# Altium schematic symbol library Schlib1.SchLib: 15 symbols
Pins are listed as number, name and electrical type; pins without a type are passive.

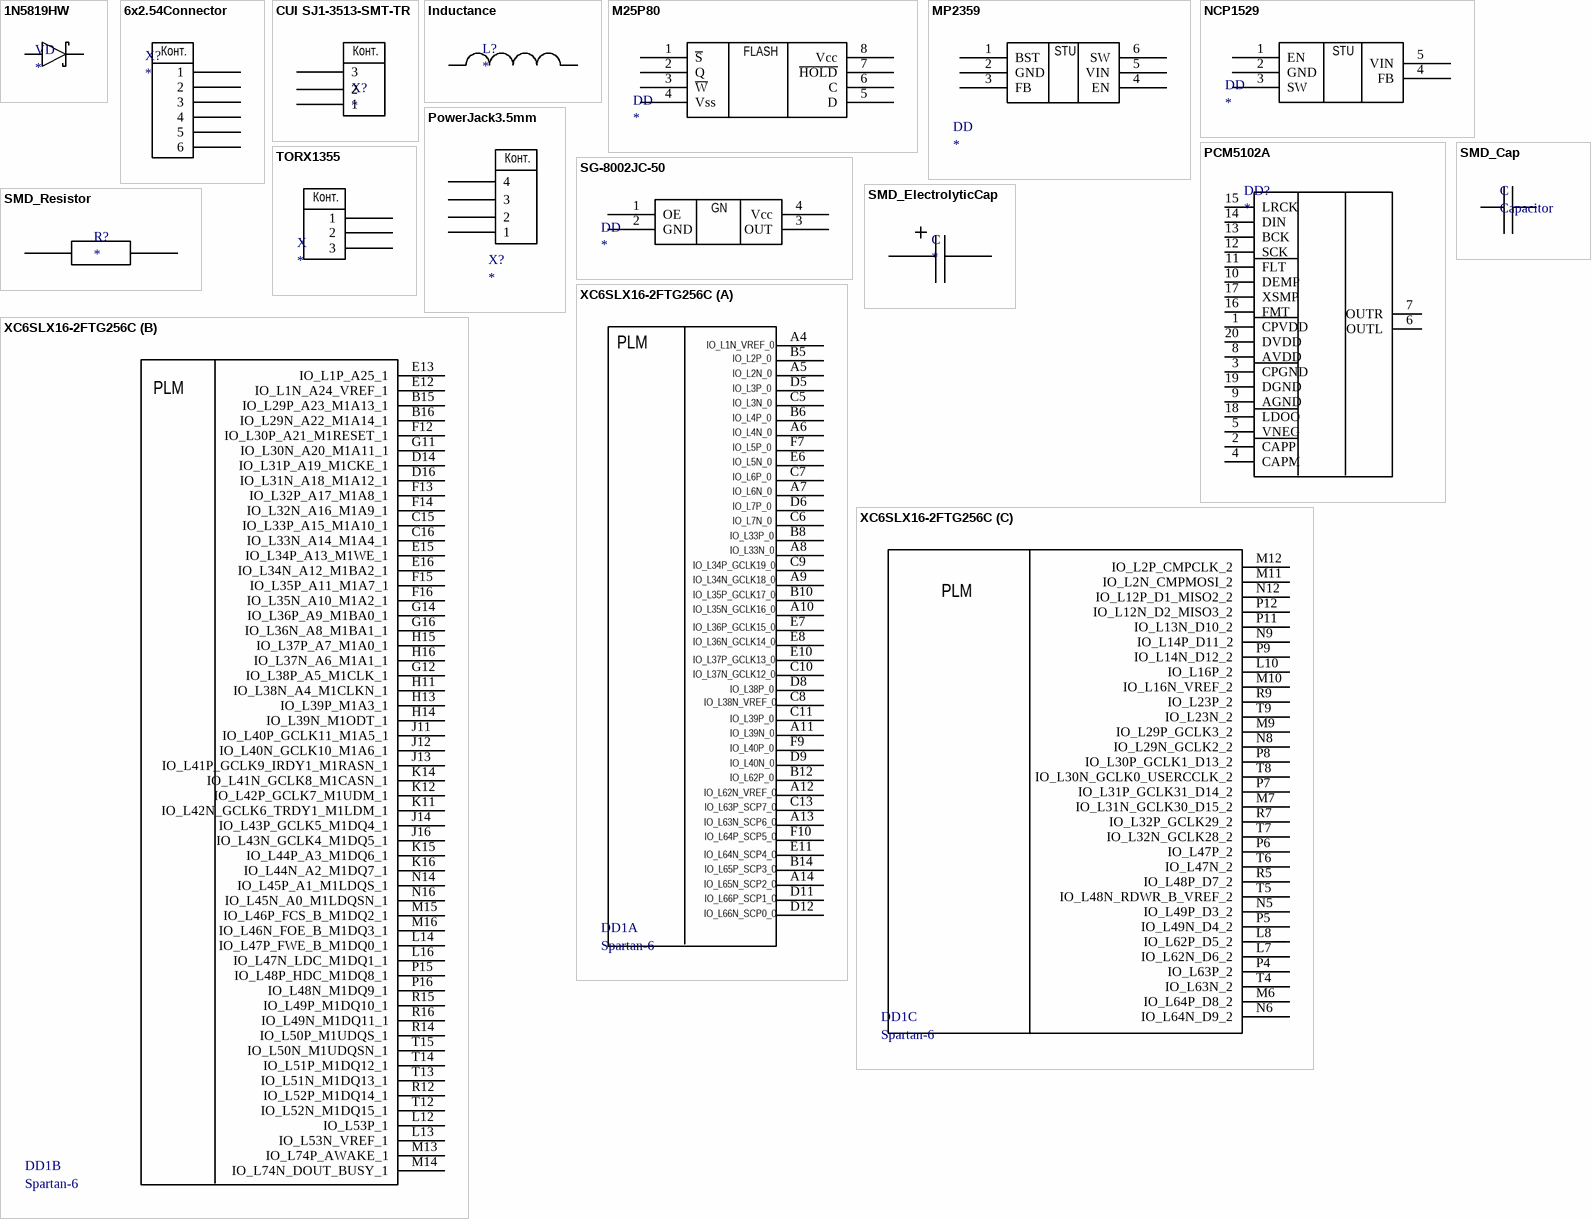
[diagram p0: symbols 1N5819HW to XC6SLX16-2FTG256C]

## 1N5819HW
designator VD
Didode Schottky; Manufacturer: 1; ManufacturerPartNumber: *; Part Number: *
footprint SOD123
pins: 1, 2

## 6x2.54Connector
designator X?
JTAG connect on PCB
footprint 6PINConnector2.54
pins: 1, 2, 3, 4, 5, 6
text: Конт.

## CUI SJ1-3513-SMT-TR
designator X?
Stereo Jack 3.5 CUI SJ1-3513-SMT-TR
footprint StereoJack3.5
pins: 1, 2, 3
text: Конт.

## Inductance
designator L?
footprint InductorSMD (B82462G4472M)
pins: 1, 2

## M25P80
designator DD
Flash memory SPI
footprint STSO-8
pins: 1 ~{S} "ChipSelect", 2 Q "DataOutput", 3 ~{W} "WriteProtect", 4 Vss "Ground", 5 D "DataInput", 6 C "SerialClock", 7 ~{HOLD} "PauseSignal", 8 Vcc "SupplyVoltage"
text: FLASH

## MP2359
designator DD
step-down switch converter TSOT-23-6
footprint SOP6
pins: 1 BST, 2 GND, 3 FB, 4 EN, 5 VIN, 6 SW
text: STU

## NCP1529
designator DD
Step-down / Converter TSOP−5
footprint PCBComponent_1 - duplicate1
pins: 1 EN, 2 GND, 3 SW, 4 FB, 5 VIN
text: STU

## PCM5102A
designator DD?
I2S DAC
pins: 1 CPVDD, 2 CAPP, 3 CPGND, 4 CAPM, 5 VNEG, 6 OUTL, 7 OUTR, 8 AVDD, 9 AGND, 10 DEMP, 11 FLT, 12 SCK, 13 BCK, 14 DIN, 15 LRCK, 16 FMT, 17 XSMP, 18 LDOO, 19 DGND, 20 DVDD

## PowerJack3.5mm
designator X?
footprint PowerJackConnector4pin
pins: 1, 2, 3, 4
text: Конт.

## SG-8002JC-50
designator DD
Oscillator 50 MHz 3.3V smd
footprint SOJ4
pins: 1 OE, 2 GND, 3 OUT, 4 Vcc
text: GN

## SMD_Cap
designator C, comment Capacitor
C1825C104JBGACTU - Kemet
footprint SMD0805
pins: 1, 2

## SMD_ElectrolyticCap
designator C
EEV-EB2W4R7SQ
footprint ElectrolitycCap
pins: 1, 2

## SMD_Resistor
designator R?
SMD resistor
footprint Resistor
pins: 1, 2

## TORX1355
designator X
footprint SPDIF
pins: 1, 2, 3
text: Конт.

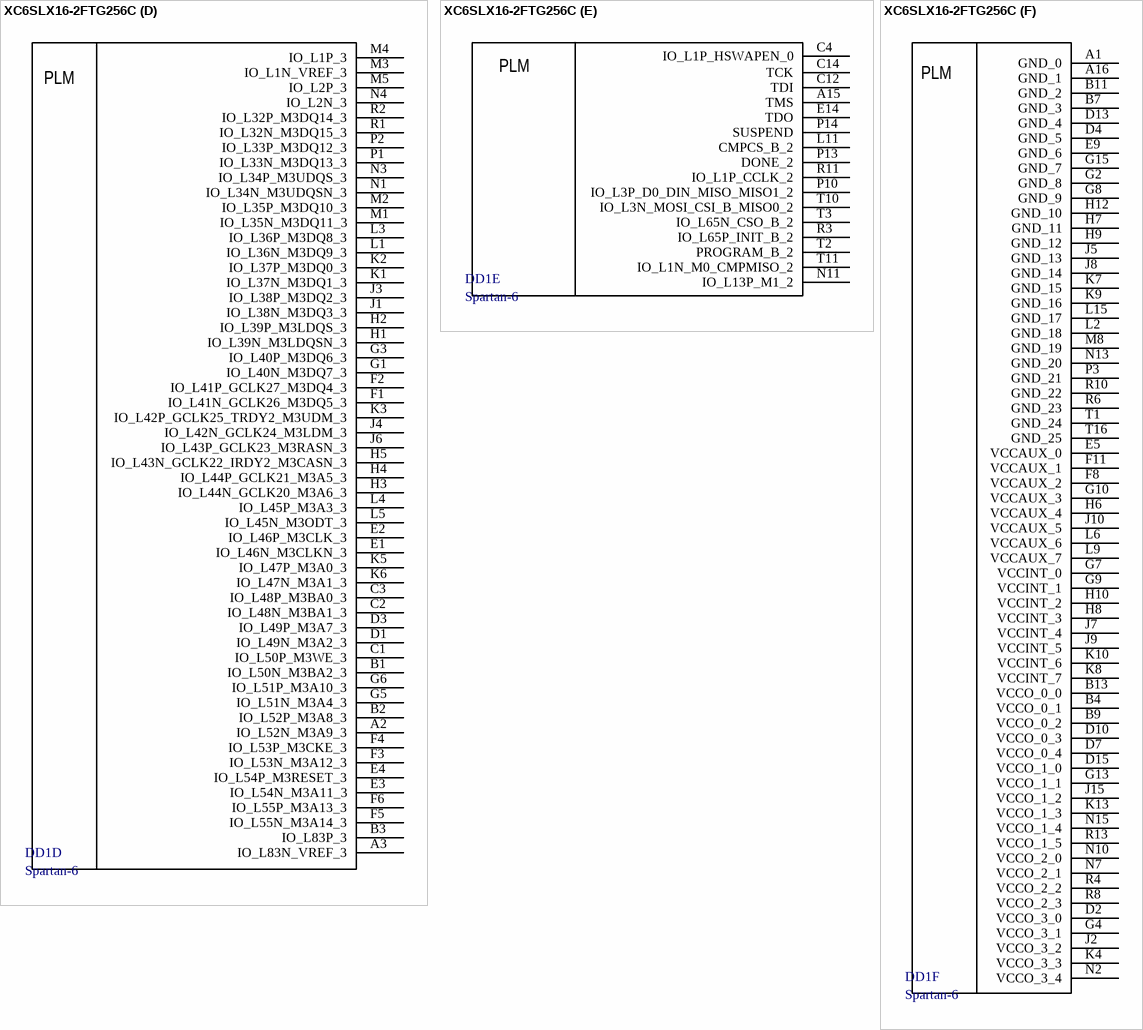
[diagram p1: symbol XC6SLX16-2FTG256C]

## XC6SLX16-2FTG256C
designator DD1, comment Spartan-6
footprint FTG256
part A pins: A4, A5, A6, A7, A8, A9, A10, A11, A12, A13, A14, B5, B6, B8, B10, B12, B14, C5, C6, C7, C8, C9, C10, C11, C13, D5, D6, D8, D9, D11, D12, E6, E7, E8, E10, E11, F7, F9, F10
part B pins: B15 IO_L29P_A23_M1A13_1, B16 IO_L29N_A22_M1A14_1, C15 IO_L33P_A15_M1A10_1, C16 IO_L33N_A14_M1A4_1, D14 IO_L31P_A19_M1CKE_1, D16 IO_L31N_A18_M1A12_1, E12 IO_L1N_A24_VREF_1, E13 IO_L1P_A25_1, E15 IO_L34P_A13_M1WE_1, E16 IO_L34N_A12_M1BA2_1, F12 IO_L30P_A21_M1RESET_1, F13 IO_L32P_A17_M1A8_1, F14 IO_L32N_A16_M1A9_1, F15 IO_L35P_A11_M1A7_1, F16 IO_L35N_A10_M1A2_1, G11 IO_L30N_A20_M1A11_1, G12 IO_L38P_A5_M1CLK_1, G14 IO_L36P_A9_M1BA0_1, G16 IO_L36N_A8_M1BA1_1, H11 IO_L38N_A4_M1CLKN_1, H13 IO_L39P_M1A3_1, H14 IO_L39N_M1ODT_1, H15 IO_L37P_A7_M1A0_1, H16 IO_L37N_A6_M1A1_1, J11 IO_L40P_GCLK11_M1A5_1, J12 IO_L40N_GCLK10_M1A6_1, J13 IO_L41P_GCLK9_IRDY1_M1RASN_1, J14 IO_L43P_GCLK5_M1DQ4_1, J16 IO_L43N_GCLK4_M1DQ5_1, K11 IO_L42N_GCLK6_TRDY1_M1LDM_1, K12 IO_L42P_GCLK7_M1UDM_1, K14 IO_L41N_GCLK8_M1CASN_1, K15 IO_L44P_A3_M1DQ6_1, K16 IO_L44N_A2_M1DQ7_1, L12 IO_L53P_1, L13 IO_L53N_VREF_1, L14 IO_L47P_FWE_B_M1DQ0_1, L16 IO_L47N_LDC_M1DQ1_1, M13 IO_L74P_AWAKE_1, M14 IO_L74N_DOUT_BUSY_1, M15 IO_L46P_FCS_B_M1DQ2_1, M16 IO_L46N_FOE_B_M1DQ3_1, N14 IO_L45P_A1_M1LDQS_1, N16 IO_L45N_A0_M1LDQSN_1, P15 IO_L48P_HDC_M1DQ8_1, P16 IO_L48N_M1DQ9_1, R12 IO_L52P_M1DQ14_1, R14 IO_L50P_M1UDQS_1, R15 IO_L49P_M1DQ10_1, R16 IO_L49N_M1DQ11_1, T12 IO_L52N_M1DQ15_1, T13 IO_L51N_M1DQ13_1, T14 IO_L51P_M1DQ12_1, T15 IO_L50N_M1UDQSN_1
part C pins: L7 IO_L62N_D6_2, L8 IO_L62P_D5_2, L10 IO_L16P_2, M6 IO_L64P_D8_2, M7 IO_L31N_GCLK30_D15_2, M9 IO_L29P_GCLK3_2, M10 IO_L16N_VREF_2, M11 IO_L2N_CMPMOSI_2, M12 IO_L2P_CMPCLK_2, N5 IO_L49P_D3_2, N6 IO_L64N_D9_2, N8 IO_L29N_GCLK2_2, N9 IO_L14P_D11_2, N12 IO_L12P_D1_MISO2_2, P4 IO_L63P_2, P5 IO_L49N_D4_2, P6 IO_L47P_2, P7 IO_L31P_GCLK31_D14_2, P8 IO_L30P_GCLK1_D13_2, P9 IO_L14N_D12_2, P11 IO_L13N_D10_2, P12 IO_L12N_D2_MISO3_2, R5 IO_L48P_D7_2, R7 IO_L32P_GCLK29_2, R9 IO_L23P_2, T4 IO_L63N_2, T5 IO_L48N_RDWR_B_VREF_2, T6 IO_L47N_2, T7 IO_L32N_GCLK28_2, T8 IO_L30N_GCLK0_USERCCLK_2, T9 IO_L23N_2
part D pins: A2 IO_L52N_M3A9_3, A3 IO_L83N_VREF_3, B1 IO_L50N_M3BA2_3, B2 IO_L52P_M3A8_3, B3 IO_L83P_3, C1 IO_L50P_M3WE_3, C2 IO_L48N_M3BA1_3, C3 IO_L48P_M3BA0_3, D1 IO_L49N_M3A2_3, D3 IO_L49P_M3A7_3, E1 IO_L46N_M3CLKN_3, E2 IO_L46P_M3CLK_3, E3 IO_L54N_M3A11_3, E4 IO_L54P_M3RESET_3, F1 IO_L41N_GCLK26_M3DQ5_3, F2 IO_L41P_GCLK27_M3DQ4_3, F3 IO_L53N_M3A12_3, F4 IO_L53P_M3CKE_3, F5 IO_L55N_M3A14_3, F6 IO_L55P_M3A13_3, G1 IO_L40N_M3DQ7_3, G3 IO_L40P_M3DQ6_3, G5 IO_L51N_M3A4_3, G6 IO_L51P_M3A10_3, H1 IO_L39N_M3LDQSN_3, H2 IO_L39P_M3LDQS_3, H3 IO_L44N_GCLK20_M3A6_3, H4 IO_L44P_GCLK21_M3A5_3, H5 IO_L43N_GCLK22_IRDY2_M3CASN_3, J1 IO_L38N_M3DQ3_3, J3 IO_L38P_M3DQ2_3, J4 IO_L42N_GCLK24_M3LDM_3, J6 IO_L43P_GCLK23_M3RASN_3, K1 IO_L37N_M3DQ1_3, K2 IO_L37P_M3DQ0_3, K3 IO_L42P_GCLK25_TRDY2_M3UDM_3, K5 IO_L47P_M3A0_3, K6 IO_L47N_M3A1_3, L1 IO_L36N_M3DQ9_3, L3 IO_L36P_M3DQ8_3, L4 IO_L45P_M3A3_3, L5 IO_L45N_M3ODT_3, M1 IO_L35N_M3DQ11_3, M2 IO_L35P_M3DQ10_3, M3 IO_L1N_VREF_3, M4 IO_L1P_3, M5 IO_L2P_3, N1 IO_L34N_M3UDQSN_3, N3 IO_L34P_M3UDQS_3, N4 IO_L2N_3, P1 IO_L33N_M3DQ13_3, P2 IO_L33P_M3DQ12_3, R1 IO_L32N_M3DQ15_3, R2 IO_L32P_M3DQ14_3
part E pins: A15 TMS, C4 IO_L1P_HSWAPEN_0, C12 TDI, C14 TCK, E14 TDO, L11 CMPCS_B_2, N11 IO_L13P_M1_2, P10 IO_L3P_D0_DIN_MISO_MISO1_2, P13 DONE_2, P14 SUSPEND, R3 IO_L65P_INIT_B_2, R11 IO_L1P_CCLK_2, T2 PROGRAM_B_2, T3 IO_L65N_CSO_B_2, T10 IO_L3N_MOSI_CSI_B_MISO0_2, T11 IO_L1N_M0_CMPMISO_2
part F pins: A1 GND_0, A16 GND_1, B4 VCCO_0_1, B7 GND_3, B9 VCCO_0_2, B11 GND_2, B13 VCCO_0_0, D2 VCCO_3_0, D4 GND_5, D7 VCCO_0_4, D10 VCCO_0_3, D13 GND_4, D15 VCCO_1_0, E5 VCCAUX_0, E9 GND_6, F8 VCCAUX_2, F11 VCCAUX_1, G2 GND_8, G4 VCCO_3_1, G7 VCCINT_0, G8 GND_9, G9 VCCINT_1, G10 VCCAUX_3, G13 VCCO_1_1, G15 GND_7, H6 VCCAUX_4, H7 GND_11, H8 VCCINT_3, H9 GND_12, H10 VCCINT_2, H12 GND_10, J2 VCCO_3_2, J5 GND_13, J7 VCCINT_4, J8 GND_14, J9 VCCINT_5, J10 VCCAUX_5, J15 VCCO_1_2, K4 VCCO_3_3, K7 GND_15, K8 VCCINT_7, K9 GND_16, K10 VCCINT_6, K13 VCCO_1_3, L2 GND_18, L6 VCCAUX_6, L9 VCCAUX_7, L15 GND_17, M8 GND_19, N2 VCCO_3_4, N7 VCCO_2_1, N10 VCCO_2_0, N13 GND_20, N15 VCCO_1_4, P3 GND_21, R4 VCCO_2_2, R6 GND_23, R8 VCCO_2_3, R10 GND_22, R13 VCCO_1_5, T1 GND_24, T16 GND_25
part A text: IO_L1N_VREF_0; PLM; IO_L2P_0; IO_L2N_0; IO_L3P_0; IO_L3N_0; IO_L4P_0; IO_L4N_0; IO_L5P_0; IO_L5N_0; IO_L6P_0; IO_L6N_0; IO_L7P_0; IO_L7N_0; IO_L33P_0; IO_L33N_0; IO_L34P_GCLK19_0; IO_L34N_GCLK18_0; IO_L35P_GCLK17_0; IO_L35N_GCLK16_0; IO_L36P_GCLK15_0; IO_L36N_GCLK14_0; IO_L37P_GCLK13_0; IO_L37N_GCLK12_0; IO_L38P_0; IO_L38N_VREF_0; IO_L39P_0; IO_L39N_0; IO_L40P_0; IO_L40N_0; IO_L62P_0; IO_L62N_VREF_0; IO_L63P_SCP7_0; IO_L63N_SCP6_0; IO_L64P_SCP5_0; IO_L64N_SCP4_0; IO_L65P_SCP3_0; IO_L65N_SCP2_0; IO_L66P_SCP1_0; IO_L66N_SCP0_0
part B text: PLM
part C text: PLM
part D text: PLM
part E text: PLM
part F text: PLM